# Altium schematic symbol library CAP,EDLC,47mF,5.5V,Radial.Schlib: 1 symbol
Pins are listed as number, name and electrical type; pins without a type are passive.

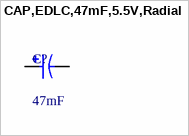
[diagram p0: symbol CAP,EDLC,47mF,5.5V,Radial]

## CAP,EDLC,47mF,5.5V,Radial
designator C?, comment 47mF
47 mF (EDLC) Supercapacitor 5.5 V Radial, Can 100Ohm @ 1kHz -
pins: 1, 2
1 alternate drawing of the same symbol